# Altium schematic symbol library Schlib1.SchLib: 2 symbols
Pins are listed as number, name and electrical type; pins without a type are passive.

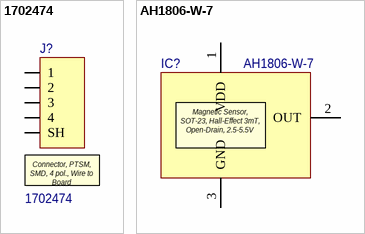
[diagram p0: symbols 1702474 to AH1806-W-7]

## 1702474
designator J?
Connector, PTSM, SMD, 4 pol., Wire to Board; Manufacturer: Phoenix Contact; ComponentLink1URL: P:/1702474.pdf; ComponentLink1Description: Datasheet; OC_FEPA: *; ComponentLink3Description: Drawing; ComponentLink3URL: P:/pxc_1702474_00_PTSM-0-5-4-2-5-H-SMD-R24_FAM.pdf; Supplier 1: Digi-Key; Supplier Part Number 1: 277-2338-1-ND; Supplier 2: Farnell; Supplier Part Number 2: -; Supplier 3: Mouser; Supplier Part Number 3: 651-1702474; Supplier 4: RSComponents; Supplier Part Number 4: 804-5449; MPN: 1702474
footprint 1702474
pins: 1, 2, 3, 4, SH1 SH, SH2

## AH1806-W-7
designator IC?
Magnetic Sensor, SOT-23, Hall-Effect 3mT, Open-Drain, 2.5-5.5V; Manufacturer: Diodes Inc.; ComponentLink1URL: https://www.diodes.com/assets/Datasheets/AH1806.pdf; ComponentLink1Description: Datasheet; OC_FEPA: *; Supplier 1: Digi-Key; Supplier Part Number 1: AH1806-W-7DICT-ND; Supplier 2: Farnell; Supplier Part Number 2: -; Supplier 3: Mouser; Supplier Part Number 3: 621-AH1806-W-7; MPN: AH1806-W-7
footprint SOT-23
pins: 1 VDD, 2 OUT, 3 GND